# EAGLE library part DS15BR400 (library National)
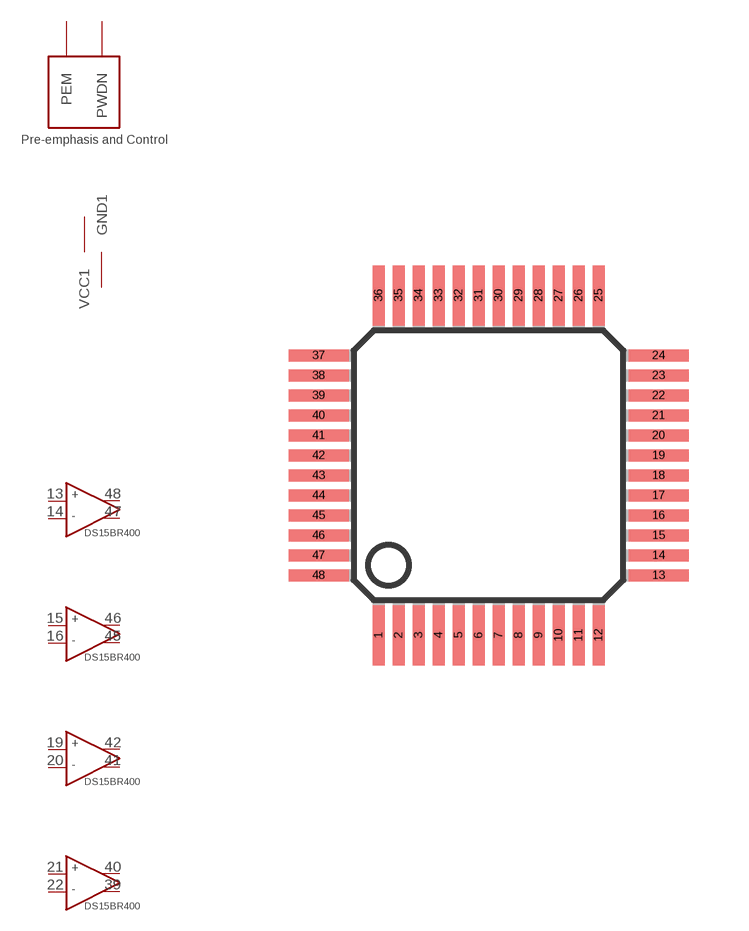
[diagram p1: symbol with the pads of TQFP48; footprint TQFP48]

Designator prefix -; gates G$1=DS15BR400 G$2=DS15BR400 G$3=DS15BR400 G$4=DS15BR400 G$5=POWER G$6=PRECONTROL

## DS15BR400  [TQFP48]
2  G$6:PEM
3  G$5:VCC1
4  G$5:VCC1
5  G$5:VCC1
7  G$5:VCC1
8  G$5:GND1
9  G$5:GND1
10  G$5:VCC1
11  G$5:VCC1
12  G$6:PWDN
13  G$1:IN+  in
14  G$1:IN-  in
15  G$2:IN+  in
16  G$2:IN-  in
17  G$5:GND1
18  G$5:GND1
19  G$3:IN+  in
20  G$3:IN-  in
21  G$4:IN+  in
22  G$4:IN-  in
23  G$5:GND1
24  G$5:GND1
28  G$5:VCC1
29  G$5:VCC1
30  G$5:VCC1
32  G$5:VCC1
33  G$5:VCC1
37  G$5:GND1
38  G$5:GND1
39  G$4:OUT-  out
40  G$4:OUT+  out
41  G$3:OUT-  out
42  G$3:OUT+  out
43  G$5:GND1
44  G$5:GND1
45  G$2:OUT-  out
46  G$2:OUT+  out
47  G$1:OUT-  out
48  G$1:OUT+  out

## Footprint TQFP48 (pad centres in mm)
Thin Quad Flat Pack
smd 0.3 x 1.5: 1 -2.75,-4.25; 2 -2.25,-4.25; 3 -1.75,-4.25; 4 -1.25,-4.25; 5 -0.75,-4.25; 6 -0.25,-4.25; 7 0.25,-4.25; 8 0.75,-4.25; 9 1.25,-4.25; 10 1.75,-4.25; 11 2.25,-4.25; 12 2.75,-4.25; 25 2.75,4.25; 26 2.25,4.25; 27 1.75,4.25; 28 1.25,4.25; 29 0.75,4.25; 30 0.25,4.25; 31 -0.25,4.25; 32 -0.75,4.25; 33 -1.25,4.25; 34 -1.75,4.25; 35 -2.25,4.25; 36 -2.75,4.25
smd 1.5 x 0.3: 13 4.25,-2.75; 14 4.25,-2.25; 15 4.25,-1.75; 16 4.25,-1.25; 17 4.25,-0.75; 18 4.25,-0.25; 19 4.25,0.25; 20 4.25,0.75; 21 4.25,1.25; 22 4.25,1.75; 23 4.25,2.25; 24 4.25,2.75; 37 -4.25,2.75; 38 -4.25,2.25; 39 -4.25,1.75; 40 -4.25,1.25; 41 -4.25,0.75; 42 -4.25,0.25; 43 -4.25,-0.25; 44 -4.25,-0.75; 45 -4.25,-1.25; 46 -4.25,-1.75; 47 -4.25,-2.25; 48 -4.25,-2.75